# Altium footprint library Resistors.PcbLib: 22 footprints (part 1 of 2)
Each footprint in its own frame and in the unit in brackets; x right, y up, seen from the top. Pads: shape width x height; smd on the part's side, far side on the other; paste and mask are expansions set on the pad; w line width, h text height; cw(c..) or ccw(c..) is an arc to the next point about the centre after c.
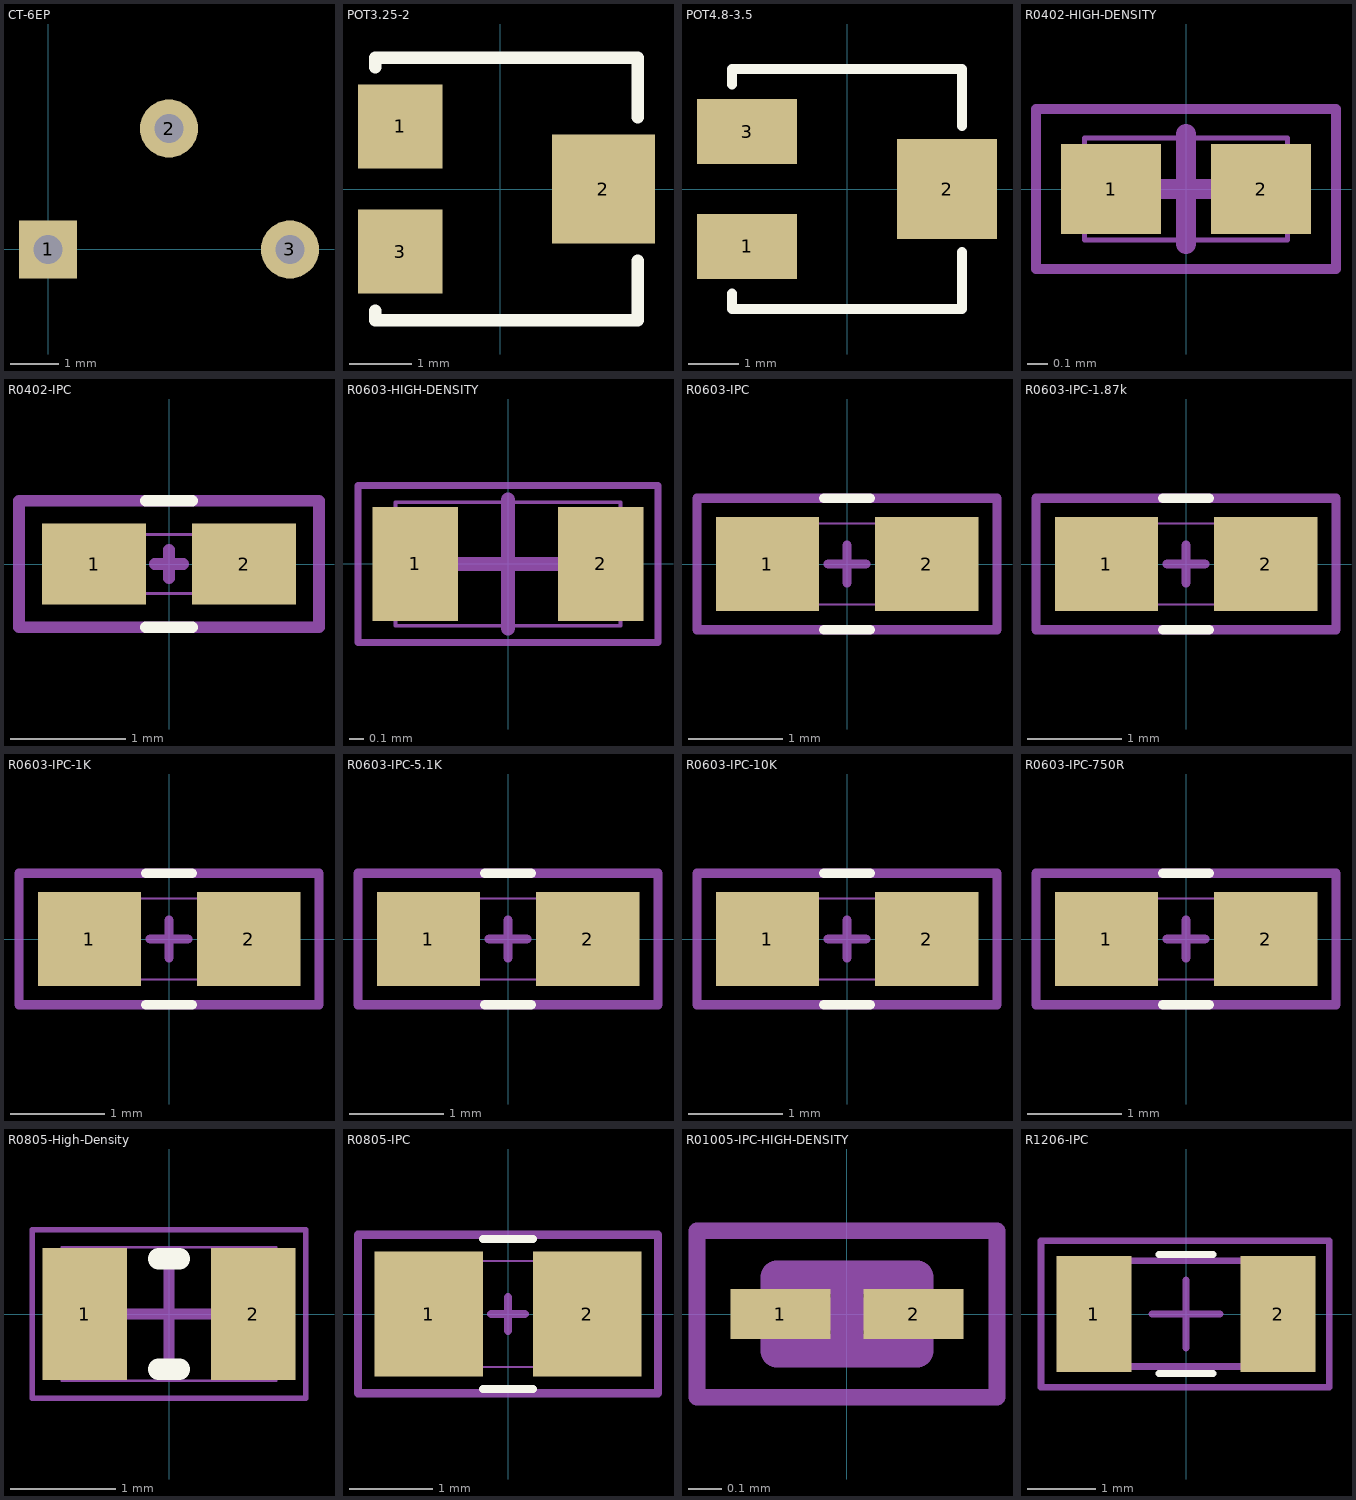
[diagram p0: the footprints below, top view; thin cyan lines are the x and y axes]

## CT-6EP [mm] "Copal Electronics Trimmer"
pads (3):
  rect 1.2x1.2 hole 0.6: 1(0,0)
  round 1.2 hole 0.6: 2(2.5,2.5) 3(5,0)
3D body "CT-6EP100k_(104).stp": height 5.81, standoff -6.99, extent -1,-3.5 6,3.5

## POT3.25-2 [mm] "Surface Mount Potentiometer"
height 0.15
pads (3):
  rect 1.35x1.35 smd: 1(-1.6,1) 3(-1.6,-1)
  rect 1.65x1.75 smd: 2(1.65,0)
Top Overlay:
  lines w0.2: -2,-1.95 -2,-2.1 2.2,-2.1 2.2,-1.15 ; -2,1.95 -2,2.1 2.2,2.1 2.2,1.15
3D body "tc33x-2-103e v3.step": height 1.13, standoff -0.02, extent -1.913,-1.8 2.05,1.8

## POT4.8-3.5 [mm] "Surface Mount Potentiometer"
height 0.15
pads (3):
  rect 2x1.3 smd: 1(-2,-1.15) 3(-2,1.15)
  rect 2x2 smd: 2(2,0)
Top Overlay:
  lines w0.2: -2.3,-2.09 -2.3,-2.4 2.3,-2.4 2.3,-1.26 ; -2.3,2.09 -2.3,2.4 2.3,2.4 2.3,1.26
3D body "3214J Bourns TrimPot v2.step": height 3.72, standoff 0.01, extent -2.476,-2.413 2.477,2.413

## R0402-HIGH-DENSITY [mm] "Chip Resistor, 2-Leads, Body 1.00x0.50mm, IPC High Density"
height 0.4
pads (2):
  rect 0.5x0.45 smd: 1(-0.375,0) 2(0.375,0)
Top Assy Drawing:
  lines w0.025: -0.508,-0.254 0.508,-0.254 0.508,0.254 -0.508,0.254 -0.508,-0.254
  text ".Designator" at -1.321,-0.254 h0.25
Mechanical 15:
  lines w0.05: -0.75,-0.4 -0.75,0.4 0.75,0.4 0.75,-0.4 -0.75,-0.4
  lines w0.1: -0.275,0 0.275,0 ; 0,-0.275 0,0.275
3D body "RES0402.STEP": height 0.34, standoff -0.02, extent -0.5,-0.255 0.5,0.255

## R0402-IPC [mm]
pads (2):
  rect 0.9x0.7 smd: 1(-0.65,0) 2(0.65,0)
Top Overlay:
  lines w0.1: -0.2,-0.55 0.2,-0.55 ; -0.2,0.55 0.2,0.55
Top Assy Drawing:
  lines w0.025: -0.508,-0.254 -0.508,0.254 0.508,0.254 0.508,-0.254 -0.508,-0.254
Mechanical 15:
  lines w0.1: -0.125,0 0.125,0 ; 0,-0.125 0,0.125 ; -1.3,-0.55 -1.3,0.55 1.3,0.55 1.3,-0.55 -1.3,-0.55
3D body "RES0402.STEP": height 0.34, standoff -0.02, extent -0.5,-0.255 0.5,0.255

## R0603-HIGH-DENSITY [mm] "Chip Resistor, 2-Leads, Body 1.60x0.80mm, IPC High Density"
height 0.55
pads (2):
  rect 0.6x0.8 smd: 1(-0.65,0) 2(0.65,0)
Top Assy Drawing:
  lines w0.025: -0.787,-0.432 0.787,-0.432 0.787,0.432 -0.787,0.432 -0.787,-0.432
  text ".Designator" at -1.321,-0.254 h0.25
Mechanical 15:
  lines w0.05: -1.05,-0.55 1.05,-0.55 1.05,0.55 -1.05,0.55 -1.05,-0.55
  lines w0.1: -0.45,0 0.45,0 ; 0,-0.45 0,0.45
3D body "RES0603.STEP": height 0.44, standoff -0.02, extent -0.775,-0.43 0.775,0.43

## R0603-IPC [mm]
pads (2):
  rect 1.1x1 smd: 1(-0.85,0) 2(0.85,0)
Top Overlay:
  lines w0.1: -0.25,-0.7 0.25,-0.7 ; -0.25,0.7 0.25,0.7
Top Assy Drawing:
  lines w0.025: -0.787,-0.432 0.787,-0.432 0.787,0.432 -0.787,0.432 -0.787,-0.432
Mechanical 15:
  lines w0.1: -0.2,0 0.2,0 ; 0,-0.2 0,0.2 ; -1.6,-0.7 -1.6,0.7 1.6,0.7 1.6,-0.7 -1.6,-0.7
3D body "RES0603.STEP": height 0.44, standoff -0.02, extent -0.775,-0.43 0.775,0.43

## R0603-IPC-1.87k [mm] "1.87k 0603 Resistor"
pads (2):
  rect 1.1x1 smd: 1(-0.85,0) 2(0.85,0)
Top Overlay:
  lines w0.1: -0.25,-0.7 0.25,-0.7 ; -0.25,0.7 0.25,0.7
Top Assy Drawing:
  lines w0.025: -0.787,-0.432 0.787,-0.432 0.787,0.432 -0.787,0.432 -0.787,-0.432
Mechanical 15:
  lines w0.1: -0.2,0 0.2,0 ; 0,-0.2 0,0.2 ; -1.6,-0.7 -1.6,0.7 1.6,0.7 1.6,-0.7 -1.6,-0.7
3D body "R0603 1.87k.step": height 0.44, standoff -0.02, extent -0.775,-0.43 0.775,0.43

## R0603-IPC-1K [mm] "1K 0603 Resistor"
pads (2):
  rect 1.1x1 smd: 1(-0.85,0) 2(0.85,0)
Top Overlay:
  lines w0.1: -0.25,-0.7 0.25,-0.7 ; -0.25,0.7 0.25,0.7
Top Assy Drawing:
  lines w0.025: -0.787,-0.432 0.787,-0.432 0.787,0.432 -0.787,0.432 -0.787,-0.432
Mechanical 15:
  lines w0.1: -0.2,0 0.2,0 ; 0,-0.2 0,0.2 ; -1.6,-0.7 -1.6,0.7 1.6,0.7 1.6,-0.7 -1.6,-0.7
3D body "R0603 v12 1k.step": height 0.44, standoff -0.02, extent -0.775,-0.43 0.775,0.43

## R0603-IPC-5.1K [mm] "5.1K 0603 Resistor"
pads (2):
  rect 1.1x1 smd: 1(-0.85,0) 2(0.85,0)
Top Overlay:
  lines w0.1: -0.25,-0.7 0.25,-0.7 ; -0.25,0.7 0.25,0.7
Top Assy Drawing:
  lines w0.025: -0.787,-0.432 -0.787,0.432 0.787,0.432 0.787,-0.432 -0.787,-0.432
Mechanical 15:
  lines w0.1: -0.2,0 0.2,0 ; 0,-0.2 0,0.2 ; -1.6,-0.7 1.6,-0.7 1.6,0.7 -1.6,0.7 -1.6,-0.7
3D body "R0603 5.1k.step": height 0.44, standoff -0.02, extent -0.775,-0.43 0.775,0.43

## R0603-IPC-10K [mm] "10K 0603 Resistor"
pads (2):
  rect 1.1x1 smd: 1(-0.85,0) 2(0.85,0)
Top Overlay:
  lines w0.1: -0.25,-0.7 0.25,-0.7 ; -0.25,0.7 0.25,0.7
Top Assy Drawing:
  lines w0.025: -0.787,-0.432 -0.787,0.432 0.787,0.432 0.787,-0.432 -0.787,-0.432
Mechanical 15:
  lines w0.1: -0.2,0 0.2,0 ; 0,-0.2 0,0.2 ; -1.6,-0.7 1.6,-0.7 1.6,0.7 -1.6,0.7 -1.6,-0.7
3D body "R0603 v11 10k.step": height 0.44, standoff -0.02, extent -0.775,-0.43 0.775,0.43

## R0603-IPC-750R [mm] "750R 0603 Resistor"
pads (2):
  rect 1.1x1 smd: 1(-0.85,0) 2(0.85,0)
Top Overlay:
  lines w0.1: -0.25,-0.7 0.25,-0.7 ; -0.25,0.7 0.25,0.7
Top Assy Drawing:
  lines w0.025: -0.787,-0.432 -0.787,0.432 0.787,0.432 0.787,-0.432 -0.787,-0.432
Mechanical 15:
  lines w0.1: -0.2,0 0.2,0 ; 0,-0.2 0,0.2 ; -1.6,-0.7 1.6,-0.7 1.6,0.7 -1.6,0.7 -1.6,-0.7
3D body "R0603 750R.step": height 0.44, standoff -0.02, extent -0.775,-0.43 0.775,0.43

## R0805-High-Density [mm] "Chip Resistor, 2-Leads, Body 2.00x1.20mm, IPC High Density"
height 0.6
pads (2):
  rect 0.8x1.25 smd: 1(-0.8,0) 2(0.8,0)
Top Overlay:
  lines w0.2: -0.1,-0.525 0.1,-0.525 ; -0.1,0.525 0.1,0.525
Top Assy Drawing:
  lines w0.025: -1.016,-0.635 -1.016,0.635 1.016,0.635 1.016,-0.635 -1.016,-0.635
  text ".Designator" at -2.337,-0.381 h0.38
Mechanical 15:
  lines w0.05: -1.3,-0.8 -1.3,0.8 1.3,0.8 1.3,-0.8 -1.3,-0.8
  lines w0.1: -0.5,0 0.5,0 ; 0,-0.5 0,0.5
3D body "RES0805.STEP": height 0.44, standoff -0.02, extent -1,-0.63 1,0.63

## R0805-IPC [mm]
pads (2):
  rect 1.3x1.5 smd: 1(-0.95,0) 2(0.95,0)
Top Overlay:
  lines w0.1: -0.3,-0.9 0.3,-0.9 ; -0.3,0.9 0.3,0.9
Top Assy Drawing:
  lines w0.025: -1.016,-0.635 1.016,-0.635 1.016,0.635 -1.016,0.635 -1.016,-0.635
  text ".Designator" at -2.337,-0.381 h0.38
Mechanical 15:
  lines w0.1: -0.2,0 0.2,0 ; 0,-0.2 0,0.2 ; -1.8,-0.95 -1.8,0.95 1.8,0.95 1.8,-0.95 -1.8,-0.95
3D body "RES0805.STEP": height 0.44, standoff -0.02, extent -1,-0.63 1,0.63

## R01005-IPC-HIGH-DENSITY [mm] "Chip Resistor, 2-Leads, Body 0.40x0.20mm, IPC High Density"
height 0.15
pads (2):
  rect 0.3x0.15 smd: 1(-0.2,0) 2(0.2,0)
3D Bodies:
  lines w0.1: -0.21,-0.11 -0.21,0.11 0.21,0.11 0.21,-0.11 -0.21,-0.11
Mechanical 15:
  lines w0.05: -0.45,-0.25 -0.45,0.25 0.45,0.25 0.45,-0.25 -0.45,-0.25
  lines w0.1: -0.11,0 0.11,0 ; 0,-0.11 0,0.11
3D body "01005(0402).x_t": height 0.14, standoff 0, extent -0.2,-0.1 0.2,0.1

## R1206-IPC [mm]
pads (2):
  rect 1.1x1.7 smd: 1(-1.35,0) 2(1.35,0)
Top Overlay:
  lines w0.1: -0.4,-0.875 0.4,-0.875 ; -0.4,0.875 0.4,0.875
Top Assy Drawing:
  lines w0.1: -0.5,0 0.5,0 ; 0,-0.5 0,0.5 ; -2.125,-1.075 2.1,-1.075 2.1,1.075 -2.125,1.075 -2.125,-1.075
  text ".Designator" at -1.956,-0.279 h0.38
Top Dimensions and Assy Info:
  lines w0.1: -1.525,-0.772 1.55,-0.772 1.55,0.78 -1.525,0.78 -1.525,-0.772
3D body "RES1206.stp": height 0.55, standoff 0, extent -1.55,-0.772 1.55,0.78